# EAGLE library part CY62167EV30 (library MainBoard)
CY62167EV30 Cypress Semiconductor 16Mbit 45ns 2.2V-3.6V parallel access SRAM Source: http://www.cypress.com/?docID=19281
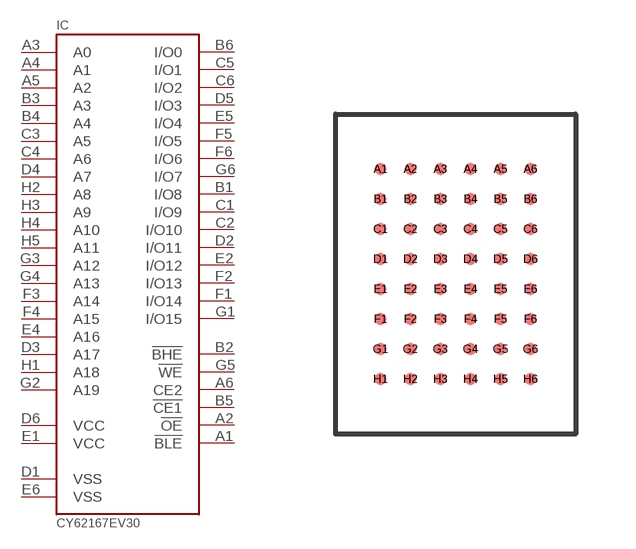
[diagram p4: symbol with the pads of VFBGA-48; footprint VFBGA-48]

Designator prefix IC

## CY62167EV30LL45BVX  [VFBGA-48]
A1  !BLE  in
A2  !OE  in
A3  A0  in
A4  A1  in
A5  A2  in
A6  CE2  in
B1  I/O8
B2  !BHE  in
B3  A3  in
B4  A4  in
B5  !CE1  in
B6  I/O0
C1  I/O9
C2  I/O10
C3  A5  in
C4  A6  in
C5  I/O1
C6  I/O2
D1  VSS  in
D2  I/O11
D3  A17  in
D4  A7  in
D5  I/O3
D6  VCC  in
E1  VCC  in
E2  I/O12
E3  NC  in
E4  A16  in
E5  I/O4
E6  VSS  in
F1  I/O14
F2  I/O13
F3  A14  in
F4  A15  in
F5  I/O5
F6  I/O6
G1  I/O15
G2  A19  in
G3  A12  in
G4  A13  in
G5  !WE  in
G6  I/O7
H1  A18  in
H2  A8  in
H3  A9  in
H4  A10  in
H5  A11  in
H6  NC  in

## Footprint VFBGA-48 (pad centres in mm)
VFBGA 48 Very-thin, fine-pitch 48-ball grid array package Source: http://www.cypress.com/?docID=19281
smd 0.3 x 0.3: A1 -1.875,2.625; A2 -1.125,2.625; A3 -0.375,2.625; A4 0.375,2.625; A5 1.125,2.625; A6 1.875,2.625; B1 -1.875,1.875; B2 -1.125,1.875; B3 -0.375,1.875; B4 0.375,1.875; B5 1.125,1.875; B6 1.875,1.875; C1 -1.875,1.125; C2 -1.125,1.125; C3 -0.375,1.125; C4 0.375,1.125; C5 1.125,1.125; C6 1.875,1.125; D1 -1.875,0.375; D2 -1.125,0.375; D3 -0.375,0.375; D4 0.375,0.375; D5 1.125,0.375; D6 1.875,0.375; E1 -1.875,-0.375; E2 -1.125,-0.375; E3 -0.375,-0.375; E4 0.375,-0.375; E5 1.125,-0.375; E6 1.875,-0.375; F1 -1.875,-1.125; F2 -1.125,-1.125; F3 -0.375,-1.125; F4 0.375,-1.125; F5 1.125,-1.125; F6 1.875,-1.125; G1 -1.875,-1.875; G2 -1.125,-1.875; G3 -0.375,-1.875; G4 0.375,-1.875; G5 1.125,-1.875; G6 1.875,-1.875; H1 -1.875,-2.625; H2 -1.125,-2.625; H3 -0.375,-2.625; H4 0.375,-2.625; H5 1.125,-2.625; H6 1.875,-2.625